# Altium footprint library switches.PcbLib: 6 footprints
Each footprint in its own frame and in the unit in brackets; x right, y up, seen from the top. Pads: shape width x height; smd on the part's side, far side on the other; paste and mask are expansions set on the pad; w line width, h text height; cw(c..) or ccw(c..) is an arc to the next point about the centre after c.
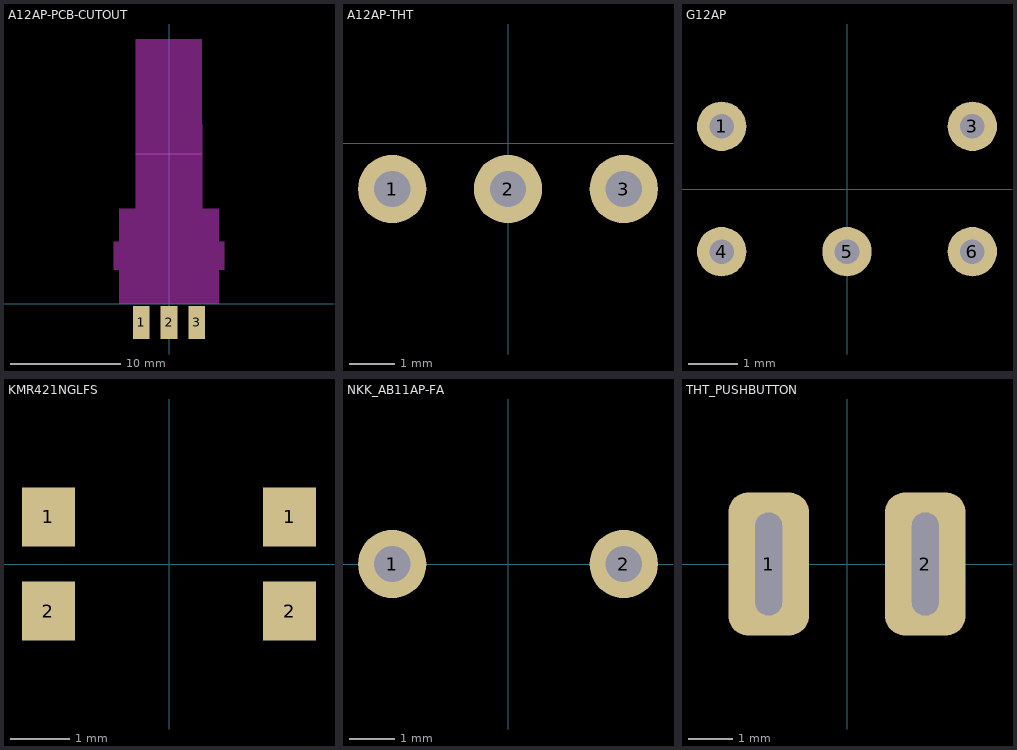
[diagram p0: the footprints below, top view; thin cyan lines are the x and y axes]

## A12AP-PCB-CUTOUT [mm] "A12AP-PCB-CUTOUT"
pads (3):
  rect 1.5x3 smd: 1(-2.5,-1.7) 2(0,-1.7) 3(2.5,-1.7)
Keep-Out Layer:
  board cut-out: -4.5,0 -4.5,3.1 -5,3.1 -5,5.6 -4.5,5.6 -4.5,8.6 -3,8.6 -3,24 2.969,24 3.001,8.6 4.5,8.6 4.5,5.6 5,5.6 5,3.1 4.5,3.1 4.5,0
Top 3D Body (Mech13):
  lines w0.02: -3,13.6 2.991,13.6
3D body "A12AP.stp": height 2.3, standoff -3.54, extent -4.902,-3.1 4.902,21.786

## A12AP-THT [mm]
pads (3):
  round 1.5 hole 0.8: 1(-2.54,-1) 2(0,-1) 3(2.54,-1)
3D body "A12AP.stp": height 21.8, standoff -3.09, extent -4.902,-2.997 4.902,2.845

## G12AP [mm]
pads (5):
  round 1 hole 0.5: 1(-2.54,1.27) 3(2.54,1.27) 4(-2.54,-1.27) 5(0,-1.27) 6(2.54,-1.27)
3D body "G12AP_with_color.STEP": height 10.77, standoff -2.6, extent -3.5,-2.25 3.5,2.25

## KMR421NGLFS [mm]
pads (4):
  rect 0.9x1 smd: 1(-2.05,0.8) 1(2.05,0.8) 2(-2.05,-0.8) 2(2.05,-0.8)
3D body "KMR421NGLFS_color.STEP": height 2.52, standoff 0, extent -2.3,-1.4 2.3,1.4

## NKK_AB11AP-FA [mm]
pads (2):
  round 1.5 hole 0.8: 1(-2.54,0) 2(2.54,0)
3D body "AB11AP-FA.stp": height 19.42, standoff -3.09, extent -4.902,-2.006 4.902,3.836

## THT_PUSHBUTTON [mm]
pads (2):
  rrect50% 1.8x3.2 hole 2.3 slot 0.6 at 0 deg: 1(-1.75,0) 2(1.75,0)
3D body "push_button.STEP": height 21.71, standoff -5.79, extent -5.196,-4.75 5.196,4.75